# EAGLE library part M.2-CARD-EDGE-E (library greg-Connector)
M.2 Card Edge Connector, Key E. Board outline - must be tied into actual board outline.
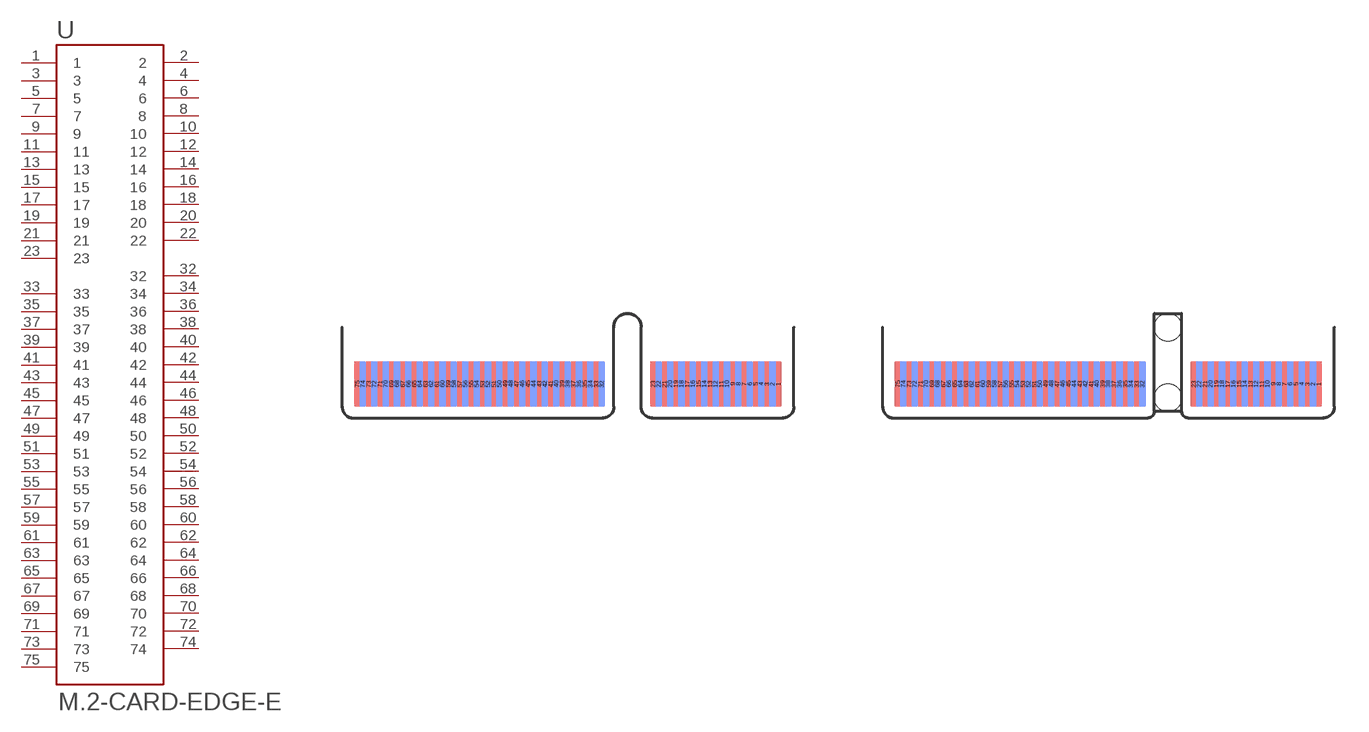
[diagram p10: symbol with the pads of M.2-CARD-EDGE-E; footprints M.2-CARD-EDGE-E, M.2-CARD-EDGE-E-DRILL-SLOT]

Designator prefix -

## M.2-CARD-EDGE-E  [M.2-CARD-EDGE-E]
1  1  pas
2  2  pas
3  3  pas
4  4  pas
5  5  pas
6  6  pas
7  7  pas
8  8  pas
9  9  pas
10  10  pas
11  11  pas
12  12  pas
13  13  pas
14  14  pas
15  15  pas
16  16  pas
17  17  pas
18  18  pas
19  19  pas
20  20  pas
21  21  pas
22  22  pas
23  23  pas
32  32  pas
33  33  pas
34  34  pas
35  35  pas
36  36  pas
37  37  pas
38  38  pas
39  39  pas
40  40  pas
41  41  pas
42  42  pas
43  43  pas
44  44  pas
45  45  pas
46  46  pas
47  47  pas
48  48  pas
49  49  pas
50  50  pas
51  51  pas
52  52  pas
53  53  pas
54  54  pas
55  55  pas
56  56  pas
57  57  pas
58  58  pas
59  59  pas
60  60  pas
61  61  pas
62  62  pas
63  63  pas
64  64  pas
65  65  pas
66  66  pas
67  67  pas
68  68  pas
69  69  pas
70  70  pas
71  71  pas
72  72  pas
73  73  pas
74  74  pas
75  75  pas

## M.2-CARD-EDGE-EDRILL-SLOT  [M.2-CARD-EDGE-E-DRILL-SLOT]
Pads as for M.2-CARD-EDGE-E

## Footprint M.2-CARD-EDGE-E (pad centres in mm)
smd 0.3 x 2: 1 9.245,1.5; 3 8.745,1.5; 5 8.245,1.5; 7 7.745,1.5; 9 7.245,1.5; 11 6.745,1.5; 13 6.245,1.5; 15 5.745,1.5; 17 5.245,1.5; 19 4.745,1.5; 21 4.245,1.5; 23 3.745,1.5; 33 1.245,1.5; 35 0.745,1.5; 37 0.245,1.5; 39 -0.255,1.5; 41 -0.755,1.5; 43 -1.255,1.5; 45 -1.755,1.5; 47 -2.255,1.5; 49 -2.755,1.5; 51 -3.255,1.5; 53 -3.755,1.5; 55 -4.255,1.5; 57 -4.755,1.5; 59 -5.255,1.5; 61 -5.755,1.5; 63 -6.255,1.5; 65 -6.755,1.5; 67 -7.255,1.5; 69 -7.755,1.5; 71 -8.255,1.5; 73 -8.755,1.5; 75 -9.255,1.5
smd 0.3 x 2 bottom: 2 8.985,1.5; 4 8.485,1.5; 6 7.985,1.5; 8 7.485,1.5; 10 6.985,1.5; 12 6.485,1.5; 14 5.985,1.5; 16 5.485,1.5; 18 4.985,1.5; 20 4.485,1.5; 22 3.985,1.5; 32 1.485,1.5; 34 0.985,1.5; 36 0.485,1.5; 38 -0.015,1.5; 40 -0.515,1.5; 42 -1.015,1.5; 44 -1.515,1.5; 46 -2.015,1.5; 48 -2.515,1.5; 50 -3.015,1.5; 52 -3.515,1.5; 54 -4.015,1.5; 56 -4.515,1.5; 58 -5.015,1.5; 60 -5.515,1.5; 62 -6.015,1.5; 64 -6.515,1.5; 66 -7.015,1.5; 68 -7.515,1.5; 70 -8.015,1.5; 72 -8.515,1.5; 74 -9.015,1.5

## Footprint M.2-CARD-EDGE-E-DRILL-SLOT (pad centres in mm)
smd 0.3 x 2: 1 9.245,1.5; 3 8.745,1.5; 5 8.245,1.5; 7 7.745,1.5; 9 7.245,1.5; 11 6.745,1.5; 13 6.245,1.5; 15 5.745,1.5; 17 5.245,1.5; 19 4.745,1.5; 21 4.245,1.5; 23 3.745,1.5; 33 1.245,1.5; 35 0.745,1.5; 37 0.245,1.5; 39 -0.255,1.5; 41 -0.755,1.5; 43 -1.255,1.5; 45 -1.755,1.5; 47 -2.255,1.5; 49 -2.755,1.5; 51 -3.255,1.5; 53 -3.755,1.5; 55 -4.255,1.5; 57 -4.755,1.5; 59 -5.255,1.5; 61 -5.755,1.5; 63 -6.255,1.5; 65 -6.755,1.5; 67 -7.255,1.5; 69 -7.755,1.5; 71 -8.255,1.5; 73 -8.755,1.5; 75 -9.255,1.5
smd 0.3 x 2 bottom: 2 8.985,1.5; 4 8.485,1.5; 6 7.985,1.5; 8 7.485,1.5; 10 6.985,1.5; 12 6.485,1.5; 14 5.985,1.5; 16 5.485,1.5; 18 4.985,1.5; 20 4.485,1.5; 22 3.985,1.5; 32 1.485,1.5; 34 0.985,1.5; 36 0.485,1.5; 38 -0.015,1.5; 40 -0.515,1.5; 42 -1.015,1.5; 44 -1.515,1.5; 46 -2.015,1.5; 48 -2.515,1.5; 50 -3.015,1.5; 52 -3.515,1.5; 54 -4.015,1.5; 56 -4.515,1.5; 58 -5.015,1.5; 60 -5.515,1.5; 62 -6.015,1.5; 64 -6.515,1.5; 66 -7.015,1.5; 68 -7.515,1.5; 70 -8.015,1.5; 72 -8.515,1.5; 74 -9.015,1.5
hole 1.2 at 2.615,4
hole 1.2 at 2.615,0.9